# Altium footprint library WE-WIRL.PcbLib: 25 footprints (part 2 of 2)
Each footprint in its own frame and in the unit in brackets; x right, y up, seen from the top. Pads: shape width x height; smd on the part's side, far side on the other; paste and mask are expansions set on the pad; w line width, h text height; cw(c..) or ccw(c..) is an arc to the next point about the centre after c.
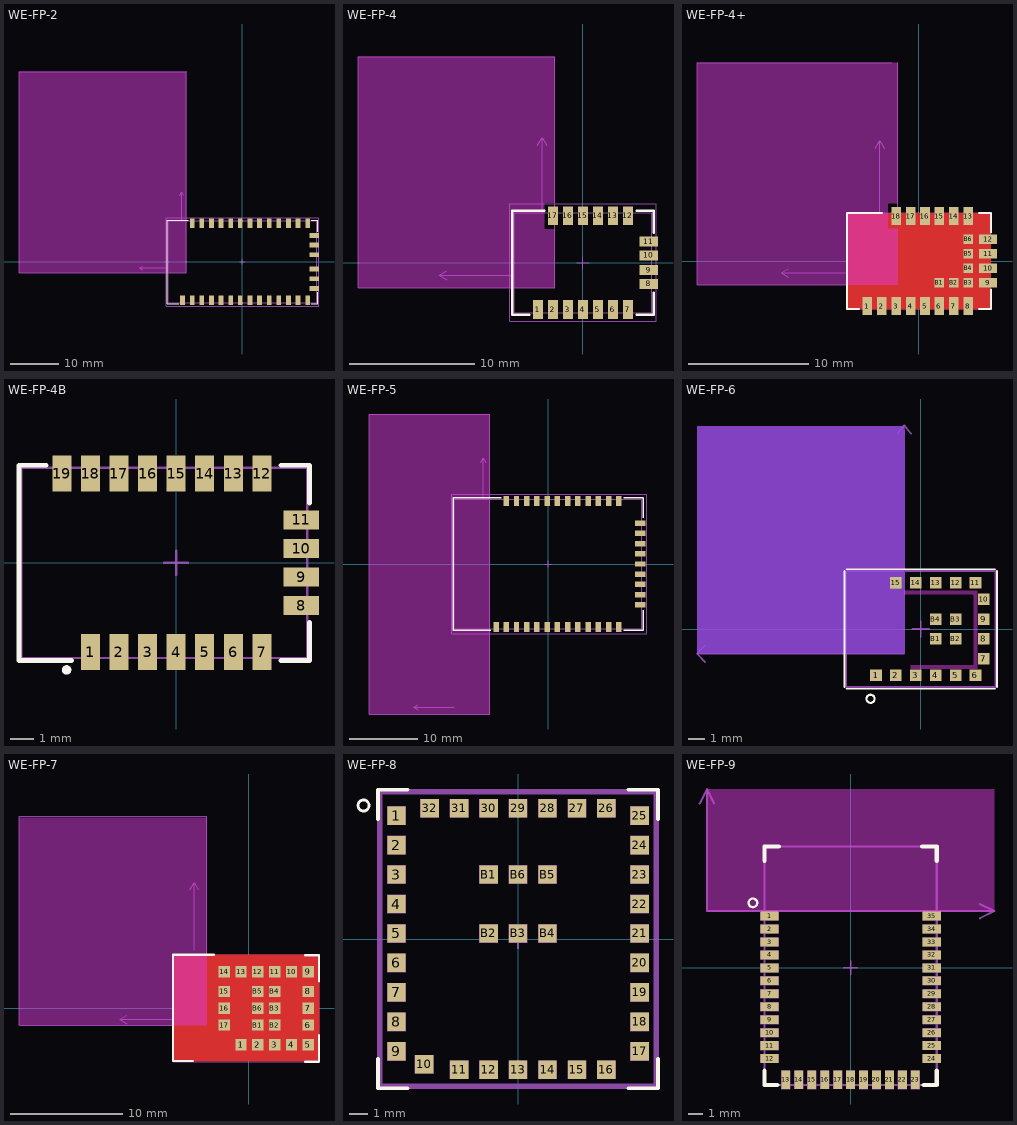
[diagram p1: the footprints below, top view; thin cyan lines are the x and y axes]

## WE-FP-2 [mm]
height 3.8
pads (33):
  rect 1x2 smd: 1(-12.425,-8) 2(-10.425,-8) 3(-8.425,-8) 4(-6.425,-8) 5(-4.425,-8) 6(-2.425,-8) 7(-0.425,-8) 8(1.575,-8) 9(3.575,-8) 10(5.575,-8) 11(7.575,-8) 12(9.575,-8) 13(11.575,-8) 14(13.575,-8) 21(13.575,8) 22(11.575,8) 23(9.575,8) 24(7.575,8) 25(5.575,8) 26(3.575,8) 27(1.575,8) 28(-0.425,8) 29(-2.425,8) 30(-4.425,8) 31(-6.425,8) 32(-8.425,8) 33(-10.425,8)
  rect 2x1 smd: 15(14.925,-5.5) 16(14.925,-3.5) 17(14.925,-1.5) 18(14.925,1.5) 19(14.925,3.5) 20(14.925,5.5)
Top Overlay:
  lines w0.2: -13.2,-8.7 -15.625,-8.7 -15.625,8.7 -11.2,8.7 ; 14.35,-8.7 15.625,-8.7 15.625,-6.3 ; 14.35,8.7 15.625,8.7 15.625,6.3
Keep-Out Layer:
  region: -46.425,-2.25 -11.625,-2.25 -11.625,39.5 -46.425,39.5
Assembly Notes:
  lines w0.1: -20.825,-1.625 -21.425,-1.25 ; -20.825,-0.875 -21.425,-1.25 ; -15.425,-1.25 -21.425,-1.25 ; -13,13.9 -12.625,14.5 ; -12.625,8.5 -12.625,14.5 ; -12.25,13.9 -12.625,14.5 ; -46.425,-2.25 -46.425,39.5 -11.625,39.5 -11.625,-2.25 -46.425,-2.25
  text "no metal" at -13.055,20.2 h0.89
  text "31mm" at -14.125,13 h0.89
  text "31mm" at -20.025,-0.7 h0.89
  text "no metal" at -27.125,-1.55 h0.89
Top Designator:
  text ".Designator" at -3.647,-0.357 h1
Top 3D Body:
  lines w0.1: -15.425,-8.5 -15.425,8.5 15.425,8.5 15.425,-8.5 -15.425,-8.5
Top Courtyard:
  lines w0.05: -15.825,-9.2 15.825,-9.2 15.825,9.2 -15.825,9.2 -15.825,-9.2
Top Component Center:
  lines w0.1: -0.5,0 0.5,0 ; 0,-0.5 0,0.5
3D body "2603011021001.stp": height 3.61, standoff 0, extent -15.425,-8.5 15.425,8.5

## WE-FP-4 [mm]
height 2.2
pads (17):
  rect 0.8x1.5 smd: 1(-3.6,-3.75) 2(-2.4,-3.75) 3(-1.2,-3.75) 4(0,-3.75) 5(1.2,-3.75) 6(2.4,-3.75) 7(3.6,-3.75) 12(3.6,3.75) 13(2.4,3.75) 14(1.2,3.75) 15(0,3.75) 16(-1.2,3.75) 17(-2.4,3.75)
  rect 1.5x0.8 smd: 8(5.25,-1.7) 9(5.25,-0.6) 10(5.25,0.6) 11(5.25,1.7)
Top Overlay:
  lines w0.2: -4.3,-4.15 -5.65,-4.15 -5.65,4.15 -3.1,4.15 ; 4.3,-4.15 5.65,-4.15 5.65,-2.4 ; 4.3,4.15 5.65,4.15 5.65,2.4
Keep-Out Layer:
  region: -18,16.5 -2.27,16.5 -2.27,4.8 -3.1,4.8 -3.1,2.7 -2.27,2.7 -2.27,-2 -18,-2
Assembly Notes:
  lines w0.1: -10.9,-1.375 -11.5,-1 ; -10.9,-0.625 -11.5,-1 ; -5.5,-1 -11.5,-1 ; -3.645,9.4 -3.27,10 ; -3.27,4 -3.27,10 ; -2.895,9.4 -3.27,10 ; -18,-2 -2.27,-2 -2.27,16.5 -18,16.5 -18,-2
  text "no metal" at -17.2,-1.3 h0.89
  text "12.5mm" at -10.7,-0.5 h0.89
  text "12.5mm" at -4.8,9.1 h0.89
  text "no metal" at -3.7,15.7 h0.89
Top Designator:
  text ".Designator" at -3.647,-0.357 h1
Top 3D Body:
  lines w0.1: -5.5,-4 -5.5,4 5.5,4 5.5,-4 -5.5,-4
Top Courtyard:
  lines w0.05: -5.85,-4.7 5.85,-4.7 5.85,4.7 -5.85,4.7 -5.85,-4.7
Top Component Center:
  lines w0.1: -0.5,0 0.5,0 ; 0,-0.5 0,0.5
3D body "2608011024001.stp": height 1.8, standoff 0, extent -5.5,-4 5.5,4

## WE-FP-4+ [mm]
height 2.2
pads (24):
  rect 0.8x1.5 smd mask+0.05: 1(-4.3,-3.75) 2(-3.1,-3.75) 3(-1.9,-3.75) 4(-0.7,-3.75) 5(0.5,-3.75) 6(1.7,-3.75) 7(2.9,-3.75) 8(4.1,-3.75) 13(4.1,3.75) 14(2.9,3.75) 15(1.7,3.75) 16(0.5,3.75) 17(-0.7,3.75) 18(-1.9,3.75)
  rect 1.5x0.8 smd mask+0.05: 9(5.75,-1.8) 10(5.75,-0.6) 11(5.75,0.6) 12(5.75,1.8)
  rect 0.8x0.8 smd mask+0.05: B1(1.7,-1.8) B2(2.9,-1.8) B3(4.1,-1.8) B4(4.1,-0.6) B5(4.1,0.6) B6(4.1,1.8)
Top Layer:
  pour cut-out: 6,4 6,-4 -6,-4 -6,4
Top Overlay:
  lines w0.2: -5,-4 -6,-4 -6,4 -3.1,4 ; 5,-4 6,-4 6,-2.4 ; 5,4 6,4 6,2.4
Keep-Out Layer:
  region: -18.5,16.5 -1.77,16.5 -1.77,4.8 -2.6,4.8 -2.6,2.7 -1.77,2.7 -1.77,-2 -18.5,-2
Assembly Notes:
  lines w0.1: -10.9,-1.375 -11.5,-1 ; -10.9,-0.625 -11.5,-1 ; -5.5,-1 -11.5,-1 ; -3.645,9.4 -3.27,10 ; -3.27,4 -3.27,10 ; -2.895,9.4 -3.27,10 ; -2.27,16.5 -18.5,16.5 -18.5,-2 -1.77,-2 -1.77,16.5
  text "no metal" at -3.7,15.7 h0.89
  text "12.5mm" at -4.8,9.1 h0.89
  text "12.5mm" at -10.7,-0.5 h0.89
  text "no metal" at -17.2,-1.3 h0.89
Top Designator:
  text ".Designator" at -3.647,-0.357 h1
Top 3D Body:
  lines w0.1: -6,-4 6,-4 6,4 -6,4 -6,0.5 -6,-0.5 -6,-4
Top Component Center:
  lines w0.1: -0.5,0 0.5,0 ; 0,-0.5 0,0.5
3D body "2611011024001.stp": height 2, standoff -0.02, extent -6,-4 6,4

## WE-FP-4B [mil]
pads (19):
  rect 31.5x59.06 smd: 1(-141.73,-147.64) 2(-94.49,-147.64) 3(-47.24,-147.64) 4(0,-147.64) 5(47.24,-147.64) 6(94.49,-147.64) 7(141.73,-147.64) 12(141.73,147.64) 13(94.49,147.64) 14(47.24,147.64) 15(0,147.64) 16(-47.24,147.64) 17(-94.49,147.64) 18(-141.73,147.64) 19(-188.98,147.64)
  rect 59.06x31.5 smd: 8(206.69,-70.87) 9(206.69,-23.62) 10(206.69,23.62) 11(206.69,70.87)
Top Overlay:
  circle w7.87: c-181.1,-177.17 r3.94
  lines w7.87: -214.96,161.42 -259.84,161.42 -259.84,-161.42 -173.23,-161.42 ; 173.23,-161.42 220.47,-161.42 220.47,-98.43 ; 173.23,161.42 220.47,161.42 220.47,98.43
Top Designator:
  text ".Designator" at -143.58,-14.06 h39.37
Top 3D Body:
  lines w3.94: -255.91,-157.48 216.54,-157.48 216.54,157.48 -255.91,157.48 -255.91,-157.48
Top Component Center:
  lines w3.94: -19.68,0 19.68,0 ; 0,-19.68 0,19.68
3D body "260905118xxx.stp": height 78.74, standoff 0, extent -256.22,-157.48 216.22,157.48

## WE-FP-5 [mm] "Calypso WIFI module  T&R"
height 3.2
pads (34):
  rect 0.8x1.5 smd: 1(-7.65,-9.25) 2(-6.15,-9.25) 3(-4.65,-9.25) 4(-3.15,-9.25) 5(-1.65,-9.25) 6(-0.15,-9.25) 7(1.35,-9.25) 8(2.85,-9.25) 9(4.35,-9.25) 10(5.85,-9.25) 11(7.35,-9.25) 12(8.85,-9.25) 13(10.35,-9.25) 23(10.35,9.25) 24(8.85,9.25) 25(7.35,9.25) 26(5.85,9.25) 27(4.35,9.25) 28(2.85,9.25) 29(1.35,9.25) 30(-0.15,9.25) 31(-1.65,9.25) 32(-3.15,9.25) 33(-4.65,9.25) 34(-6.15,9.25)
  rect 1.5x0.8 smd: 14(13.5,-6) 15(13.5,-4.5) 16(13.5,-3) 17(13.5,-1.5) 18(13.5,0) 19(13.5,1.5) 20(13.5,3) 21(13.5,4.5) 22(13.5,6)
Top Overlay:
  lines w0.2: -8.4,-9.7 -13.95,-9.7 -13.95,9.7 -6.9,9.7 ; 11.1,-9.7 13.95,-9.7 13.95,-6.75 ; 11.1,9.7 13.95,9.7 13.95,6.75
Keep-Out Layer:
  region: -26.25,-22 -26.25,22 -8.55,22 -8.55,-22
Assembly Notes:
  lines w0.1: -19.15,-21.375 -19.75,-21 ; -19.15,-20.625 -19.75,-21 ; -13.75,-21 -19.75,-21 ; -9.925,14.9 -9.55,15.5 ; -9.55,9.5 -9.55,15.5 ; -9.175,14.9 -9.55,15.5 ; -26.25,-22 -26.25,22 -8.55,22 -8.55,-22 -26.25,-22
  text "no metal" at -9.98,21.2 h0.89
  text "12.5mm" at -11.08,14.6 h0.89
  text "no metal" at -25.45,-21.3 h0.89
  text "12.5mm" at -18.95,-20.5 h0.89
Top Designator:
  text ".Designator" at -3.647,-0.357 h1
Top 3D Body:
  lines w0.1: -13.75,-9.5 -13.75,9.5 13.75,9.5 13.75,-9.5 -13.75,-9.5
Top Courtyard:
  lines w0.05: -14.15,-10.2 14.45,-10.2 14.45,10.2 -14.15,10.2 -14.15,-10.2
Top Component Center:
  lines w0.1: -0.5,0 0.5,0 ; 0,-0.5 0,0.5
3D body "2610011025001.stp": height 3, standoff 0.01, extent -13.75,-9.5 13.75,9.5

## WE-FP-6 [mm]
pads (19):
  rect 0.7x0.7 smd mask+0.05: 1(-2.7,-2.8) 2(-1.5,-2.8) 3(-0.3,-2.8) 4(0.9,-2.8) 5(2.1,-2.8) 6(3.3,-2.8) 7(3.8,-1.8) 8(3.8,-0.6) 9(3.8,0.6) 10(3.8,1.8) 11(3.3,2.8) 12(2.1,2.8) 13(0.9,2.8) 14(-0.3,2.8) 15(-1.5,2.8) B1(0.9,-0.6) B2(2.1,-0.6) B3(2.1,0.6) B4(0.9,0.6)
Top Layer keep-out:
  region: -0.6,-2.4 -0.6,-2.2 3.4,-2.2 3.4,-2.4
  region: 3.2,-2.4 3.2,2.3 3.4,2.3 3.4,-2.4
  region: -1.9,2.1 -1.9,2.3 3.3,2.3 3.3,2.1
  region: -13.5,12.235 -1,12.235 -1,-1.5 -13.5,-1.5
Bottom Layer keep-out:
  region: -13.5,12.235 -1,12.235 -1,-1.5 -13.5,-1.5
Top Overlay:
  circle w0.127: c-3.03,-4.21 r0.245
  lines w0.1: -4.6,-3.5 -4.6,3.5 ; -4.5,-3.6 4.5,-3.6 ; -4.5,3.6 4.5,3.6 ; 4.6,-3.5 4.6,3.5
Keep-Out Layer:
  region: -13.5,12.235 -1,12.235 -1,-1.5 -13.5,-1.5
Assembly Notes:
  lines w0.1: -13,-2 -13.5,-1.5 ; -13,-1 -13.5,-1.5 ; -1.392,11.799 -0.992,12.299 -0.592,11.799 ; -1,12 -1,-1.5 -13.5,-1.5
  text "NO METAL" at 1.214,8 h0.94
  text "12.5mm" at 0.3,8 h0.94
  text "NO METAL" at -12.95,-2.825 h0.94
  text "12.5mm" at -12.97,-3.655 h0.94
  text "no metal" at -3.5,-0.5 h0.94
  text "antenna" at -2.7,-0.5 h0.94
Top Designator:
  text ".Designator" at -3.647,-0.357 h1
Top 3D Body:
  lines w0.1: -4.5,-3.5 4.5,-3.5 ; -4.5,-3.5 -4.5,3.5 ; -4.5,-3.5 -4.5,3.5 ; -4.5,-3.5 4.5,-3.5 ; -4.5,3.5 4.5,3.5 ; -4.5,3.5 4.5,3.5 ; -4.5,3.5 4.5,3.5 ; 4.5,-3.5 4.5,3.5 ; 4.5,-3.5 4.5,3.5
Top Component Center:
  lines w0.1: -0.5,0 0.5,0 ; 0,-0.5 0,0.5
3D body "2612011021000.stp": height 2, standoff -0.02, extent -4.5,-3.5 4.5,3.5

## WE-FP-7 [mm]
height 2.2
pads (23):
  rect 1x1 smd mask+0.05: 1(-0.7,-3.25) 2(0.8,-3.25) 3(2.3,-3.25) 4(3.8,-3.25) 5(5.3,-3.25) 6(5.3,-1.5) 7(5.3,0) 8(5.3,1.5) 9(5.3,3.25) 10(3.8,3.25) 11(2.3,3.25) 12(0.8,3.25) 13(-0.7,3.25) 14(-2.2,3.25) 15(-2.2,1.5) 16(-2.2,0) 17(-2.2,-1.5) B1(0.8,-1.5) B2(2.3,-1.5) B3(2.3,0) B4(2.3,1.5) B5(0.8,1.5) B6(0.8,0)
Top Layer:
  pour cut-out: 6.25,4.75 6.25,-4.73 -6.74,-4.73 -6.74,4.75
Top Overlay:
  lines w0.2: -5,-4.705 -6.75,-4.705 -6.75,4.765 -3.1,4.765 ; 5,-4.76 6.24,-4.76 6.24,-2.4 ; 5,4.725 6.25,4.725 6.25,2.4
Keep-Out Layer:
  region: -20.48,17 -3.75,17 -3.75,5.3 -3.75,3.2 -3.75,-1.5 -20.48,-1.5
Assembly Notes:
  lines w0.1: -20.485,-1.5 -20.485,17.105 -3.75,17.105 ; -20.44,-1.5 -3.75,-1.5 -3.75,17.095 ; -10.9,-1.375 -11.5,-1 ; -10.9,-0.625 -11.5,-1 ; -5.5,-1 -11.5,-1 ; -5.263,10.576 -4.889,11.176 ; -4.889,5.176 -4.889,11.176 ; -4.514,10.576 -4.889,11.176
  text "no metal" at -5.319,16.876 h0.89
  text "12.5mm" at -6.68,10.155 h0.89
  text "12.5mm" at -10.7,-0.5 h0.89
  text "no metal" at -17.2,-1.3 h0.89
Top Designator:
  text ".Designator" at -3.647,-0.357 h1
Top 3D Body:
  lines w0.1: -6.75,-4.75 6.25,-4.75 6.25,4.75 -6.75,4.75 -6.75,-4.75
Top Component Center:
  lines w0.1: -0.5,0 0.5,0 ; 0,-0.5 0,0.5
3D body "2617011025000.stp": height 2.05, standoff 0.05, extent -6.26,-4.75 6.24,4.75

## WE-FP-8 [mm]
height 3
pads (38):
  rect 1x1 smd: 1(-6.6,6.7) 2(-6.6,5.1) 3(-6.6,3.5) 4(-6.6,1.9) 5(-6.6,0.3) 6(-6.6,-1.3) 7(-6.6,-2.9) 8(-6.6,-4.5) 9(-6.6,-6.1) 10(-5.1,-6.8) 11(-3.2,-7.1) 12(-1.6,-7.1) 13(0,-7.1) 14(1.6,-7.1) 15(3.2,-7.1) 16(4.8,-7.1) 17(6.6,-6.1) 18(6.6,-4.5) 19(6.6,-2.9) 20(6.6,-1.3) 21(6.6,0.3) 22(6.6,1.9) 23(6.6,3.5) 24(6.6,5.1) 25(6.6,6.7) 26(4.8,7.1) 27(3.2,7.1) 28(1.6,7.1) 29(0,7.1) 30(-1.6,7.1) 31(-3.2,7.1) 32(-4.8,7.1) B1(-1.6,3.5) B2(-1.6,0.3) B3(0,0.3) B4(1.6,0.3) B5(1.6,3.5) B6(0,3.5)
Top Overlay:
  circle w0.15: c-8.39,7.25 r0.3
  lines w0.2: -7.6,-6.5 -7.6,-8.1 -6,-8.1 ; -7.6,6.5 -7.6,8.1 -6,8.1 ; 6,-8.1 7.6,-8.1 7.6,-6.5 ; 6,8.1 7.6,8.1 7.6,6.5
Top Assembly:
  drawing of 42 lines, arcs and shapes, not listed
Top Designator:
  text ".Designator" at -3.647,-0.357 h1
Top Component Center:
  lines w0.1: -0.5,0 0.5,0 ; 0,-0.5 0,0.5

## WE-FP-9 [mil]
height 66.93
pads (35):
  rect 50x24 smd: 1(-222.28,141.68) 2(-222.28,106.18) 3(-222.28,70.68) 4(-222.28,35.18) 5(-222.28,-0.32) 6(-222.28,-35.82) 7(-222.28,-71.32) 8(-222.28,-106.82) 9(-222.28,-142.32) 10(-222.28,-177.82) 11(-222.28,-213.32) 12(-222.28,-248.82) 24(222.22,-248.82) 25(222.22,-213.32) 26(222.22,-177.82) 27(222.22,-142.32) 28(222.22,-106.82) 29(222.22,-71.32) 30(222.22,-35.82) 31(222.22,-0.32) 32(222.22,35.18) 33(222.22,70.68) 34(222.22,106.18) 35(222.22,141.68)
  rect 24x50 smd: 13(-177.51,-307.22) 14(-142.01,-307.22) 15(-106.51,-307.22) 16(-71.01,-307.22) 17(-35.51,-307.22) 18(-0.01,-307.22) 19(35.49,-307.22) 20(70.99,-307.22) 21(106.49,-307.22) 22(141.99,-307.22) 23(177.49,-307.22)
Top Overlay:
  circle w5.91: c-267.72,177.95 r11.81
  lines w11.81: -236.22,-281.89 -236.22,-321.26 -200.79,-321.26 ; -236.22,293.31 -236.22,332.68 -196.85,332.68 ; 196.85,332.68 236.22,332.68 236.22,293.31 ; 200.79,-321.26 236.22,-321.26 236.22,-281.89
Keep-Out Layer:
  region: -393.7,490.16 393.7,490.16 393.7,153.54 -393.7,153.54
  region: -393.7,490.16 393.7,490.16 393.7,153.54 -393.7,153.54
Assembly Notes:
  lines w5.91: -413.39,450.79 -393.7,490.16 ; -374.02,450.79 -393.7,490.16 ; 354.33,135.83 393.7,155.51 ; 354.33,175.2 393.7,155.51 ; -393.7,490.16 -393.7,155.51 393.7,155.51
  text "area" at -160.63,190.75 h42.5
  text "8.55 mm" at -360,170 h26.77
  text "No metal" at -320,170 h26.77
  text "Antenna" at -160.63,265.75 h42.5
  text "20 mm" at 270.47,192.72 h26.77
  text "No metal" at 270.47,239.97 h26.77
Top Assembly:
  region: -197.32,-236.81 -197.32,-260.83 -247.32,-260.83 -247.32,-236.81
  region: -197.32,-201.38 -197.32,-225.39 -247.32,-225.39 -247.32,-201.38
  region: -197.32,-165.94 -197.32,-189.96 -247.32,-189.96 -247.32,-165.94
  region: -197.32,-130.51 -197.32,-154.53 -247.32,-154.53 -247.32,-130.51
  region: -197.32,-95.08 -197.32,-119.09 -247.32,-119.09 -247.32,-95.08
  region: -197.3,11.69 -197.3,-12.32 -247.3,-12.32 -247.3,11.69
  region: -197.3,47.17 -197.3,23.15 -247.3,23.15 -247.3,47.17
  region: -197.28,-59.29 -197.28,-83.31 -247.28,-83.31 -247.28,-59.29
  region: -197.26,-23.82 -197.26,-47.83 -247.26,-47.83 -247.26,-23.82
  region: -247.26,58.66 -247.26,82.68 -197.26,82.68 -197.26,58.66
  region: -247.26,94.13 -247.26,118.15 -197.26,118.15 -197.26,94.13
  region: -247.26,129.69 -247.26,153.7 -197.26,153.7 -197.26,129.69
  region: 189.49,-332.26 165.47,-332.26 165.47,-282.26 189.49,-282.26
  region: 153.98,-332.26 129.96,-332.26 129.96,-282.26 153.98,-282.26
  region: -94.53,-332.26 -118.55,-332.26 -118.55,-282.26 -94.53,-282.26
  region: -165.51,-332.26 -189.53,-332.26 -189.53,-282.26 -165.51,-282.26
  region: 47.48,-332.26 23.46,-332.26 23.46,-282.26 47.48,-282.26
  region: 82.99,-332.26 58.97,-332.26 58.97,-282.26 82.99,-282.26
  region: 118.47,-332.26 94.45,-332.26 94.45,-282.26 118.47,-282.26
  region: -23.5,-332.22 -47.52,-332.22 -47.52,-282.22 -23.5,-282.22
  region: -59.01,-332.22 -83.03,-332.22 -83.03,-282.22 -59.01,-282.22
  region: -130,-332.22 -154.02,-332.22 -154.02,-282.22 -130,-282.22
  region: 12.01,-332.22 -12.01,-332.22 -12.01,-282.22 12.01,-282.22
  region: 247.2,-236.81 247.2,-260.83 197.2,-260.83 197.2,-236.81
  region: 247.24,-201.3 247.24,-225.32 197.24,-225.32 197.24,-201.3
  region: 247.2,-165.75 247.2,-189.76 197.2,-189.76 197.2,-165.75
  region: 247.2,-130.32 247.2,-154.33 197.2,-154.33 197.2,-130.32
  region: 247.2,-94.76 247.2,-118.78 197.2,-118.78 197.2,-94.76
  region: 247.2,-59.29 247.2,-83.31 197.2,-83.31 197.2,-59.29
  region: 247.2,-23.82 247.2,-47.83 197.2,-47.83 197.2,-23.82
  region: 247.2,11.69 247.2,-12.32 197.2,-12.32 197.2,11.69
  region: 247.2,47.2 247.2,23.19 197.2,23.19 197.2,47.2
  region: 247.2,82.72 247.2,58.7 197.2,58.7 197.2,82.72
  region: 247.2,118.19 247.2,94.17 197.2,94.17 197.2,118.19
  region: 197.2,129.69 197.2,153.7 247.2,153.7 247.2,129.69
  lines w5.91: -236.22,-321.26 -236.22,332.68 236.22,332.68 236.22,-321.26 -236.22,-321.26
Top Designator:
  text ".Designator" at -143.58,-14.06 h39.37
Top Component Center:
  lines w3.94: -19.68,0 19.68,0 ; 0,-19.68 0,19.68
3D body "2620011024000.stp": height 66.93, standoff -0.1, extent -236.25,-321.24 236.22,332.66